# EAGLE library part EDGE-LIBRARY_MIC2544-1YMM (library Local Compute Module)
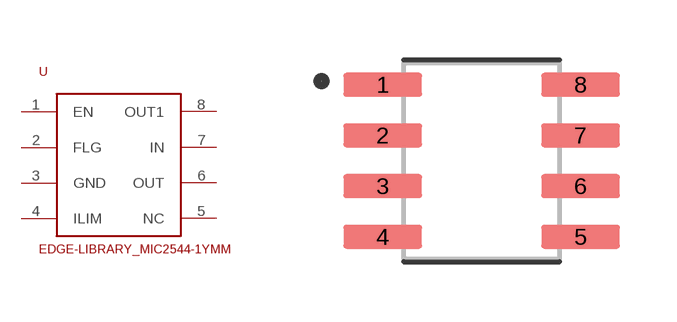
[diagram p13: symbol with the pads of EDGE-LIBRARY_SOIC127P600X175-8N; footprint EDGE-LIBRARY_SOIC127P600X175-8N]

Designator prefix U

## EDGE-LIBRARY_MIC2544-1YMM (DIGIKEY: MIC2544A-1YMM-CT-ND; MANUFACTURE: Microchip Technology; MPN: MIC2544A-1YMM-TR)  [EDGE-LIBRARY_SOIC127P600X175-8N]
1  EN
2  FLG
3  GND
4  ILIM
5  NC
6  OUT
7  IN
8  OUT1

## Footprint EDGE-LIBRARY_SOIC127P600X175-8N (pad centres in mm)
smd 1.97 x 0.6: 1 -2.475,1.905; 2 -2.475,0.635; 3 -2.475,-0.635; 4 -2.475,-1.905; 5 2.475,-1.905; 6 2.475,-0.635; 7 2.475,0.635; 8 2.475,1.905